# Altium schematic symbol library Inverter.SchLib: 1 symbol
Pins are listed as number, name and electrical type; pins without a type are passive.

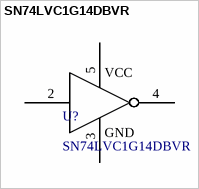
[diagram p0: symbol SN74LVC1G14DBVR]

## SN74LVC1G14DBVR
designator U?
Schmitt Trigger 1 6.5ns@2.5V,50pF 10uA 1.65V~5.5V SOT-23-5 Inverters ROHS; Manufacturer: Texas Instruments; High Level Output Current: - 32 mA; Logic Type: Inverting; Low Level Output Current: 32 mA; Number of Circuits: 1; Supply Voltage - Max: 5.5 V; Supply Voltage - Min: 1.65 V; Working Voltage: 1.65 V to 5.5 V; Value: SN74LVC1G14DBVR; ComponentLink1Description: Datasheet; ComponentLink1URL: https://lcsc.com/datasheet/lcsc_datasheet_2410122011_TI-SN74LVC1G14DBVR_C7835.pdf; Input Type: Schmitt Trigger; LCSC Part #: C7835; Manufacturer Part Number: SN74LVC1G14DBVR; Mount: SMD/SMT; Operating Temperature Max: + 125 C; Operating Temperature Min: - 40 C; Packaging: SOT-23-5; Supplier 1: Mouser; Supplier 1 Part Number: 595-SN74LVC1G14DBVR; Supplier 1 URL: https://www.mouser.vn/ProductDetail/Texas-Instruments/SN74LVC1G14DBVR?qs=dT9u2OTAaVWRIgCrQFnxuQ%3D%3D; Supplier 2: Digi-Key; Supplier 2 Part Number: 4518-SN74LVC1G14DBVRTR-ND; Supplier 2 URL: https://www.digikey.com/en/products/detail/umw/sn74lvc1g14dbvr/16705935; Supplier 3: thegioiic; Supplier 3 Part Number: N/A; Supplier 3 URL: N/A
footprint SN74LVC1G14DBVR (SOT23, 5-Leads, Body 2.88x2.80mm, Pitch 0.95mm, IPC Medium Density)
pins: 2 A, 3 GND, 4 Y, 5 VCC